# EAGLE library part TB6612FNG (library IC & Transistor)
TB6612FNG - Driver IC for Dual DC motor TB6612FNG is a driver IC for DC motor with output transistor in LD MOS structure with low ON-resistor. Two input signals, IN1 and IN2, can choose one of four modes such as CW, CCW, short brake, and stop mode.
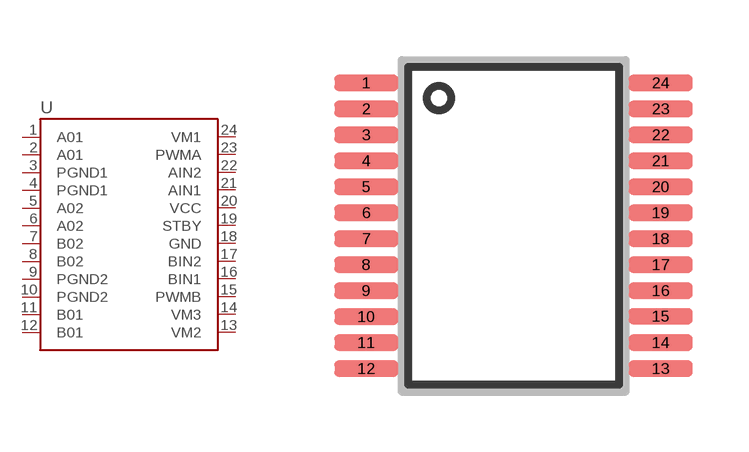
[diagram p12: symbol with the pads of SSOP-24; footprint SSOP-24]

Designator prefix -

## TB6612FNG (DESC: Driver IC for Dual DC motor; VALUE: 1.2A/Channel)  [SSOP-24]
1  A01
2  A01
3  PGND1
4  PGND1
5  A02
6  A02
7  B02
8  B02
9  PGND2
10  PGND2
11  B01
12  B01
13  VM2
14  VM3
15  PWMB
16  BIN1
17  BIN2
18  GND
19  STBY
20  VCC
21  AIN1
22  AIN2
23  PWMA
24  VM1

## Footprint SSOP-24 (pad centres in mm)
Small Shrink Ouline Package (SSOP-24) Size: 7.6 x 8.3 mm Lead Pitch: 0.65
smd 1.6 x 0.4: 1 -3.683,3.575; 2 -3.683,2.925; 3 -3.683,2.275; 4 -3.683,1.625; 5 -3.683,0.975; 6 -3.683,0.325; 7 -3.683,-0.325; 8 -3.683,-0.975; 9 -3.683,-1.625; 10 -3.683,-2.275; 11 -3.683,-2.925; 12 -3.683,-3.575; 13 3.683,-3.575; 14 3.683,-2.925; 15 3.683,-2.265; 16 3.683,-1.625; 17 3.683,-0.975; 18 3.683,-0.325; 19 3.683,0.325; 20 3.683,0.975; 21 3.683,1.625; 22 3.683,2.275; 23 3.683,2.925; 24 3.683,3.575